# EAGLE library part P82B96 (library aggiunte)
P2B96TD I2C BUFFER
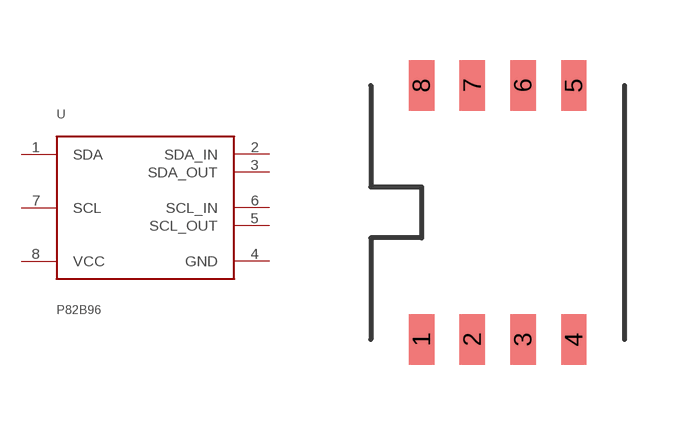
[diagram p12: symbol with the pads of P82B96TD; footprint P82B96TD]

Designator prefix -

## P82B96  [P82B96TD]
1  SDA
2  SDA_IN
3  SDA_OUT
4  GND
5  SCL_OUT
6  SCL_IN
7  SCL
8  VCC

## Footprint P82B96TD (pad centres in mm)
smd 0.635 x 1.27: 1 0,0; 2 1.27,0; 3 2.54,0; 4 3.81,0; 5 3.81,6.35; 6 2.54,6.35; 7 1.27,6.35; 8 0,6.35